# Altium integrated library Analog Devices Data Converters Digital-to-Analog Converters.IntLib: 2231 symbols (part 116 of 181)
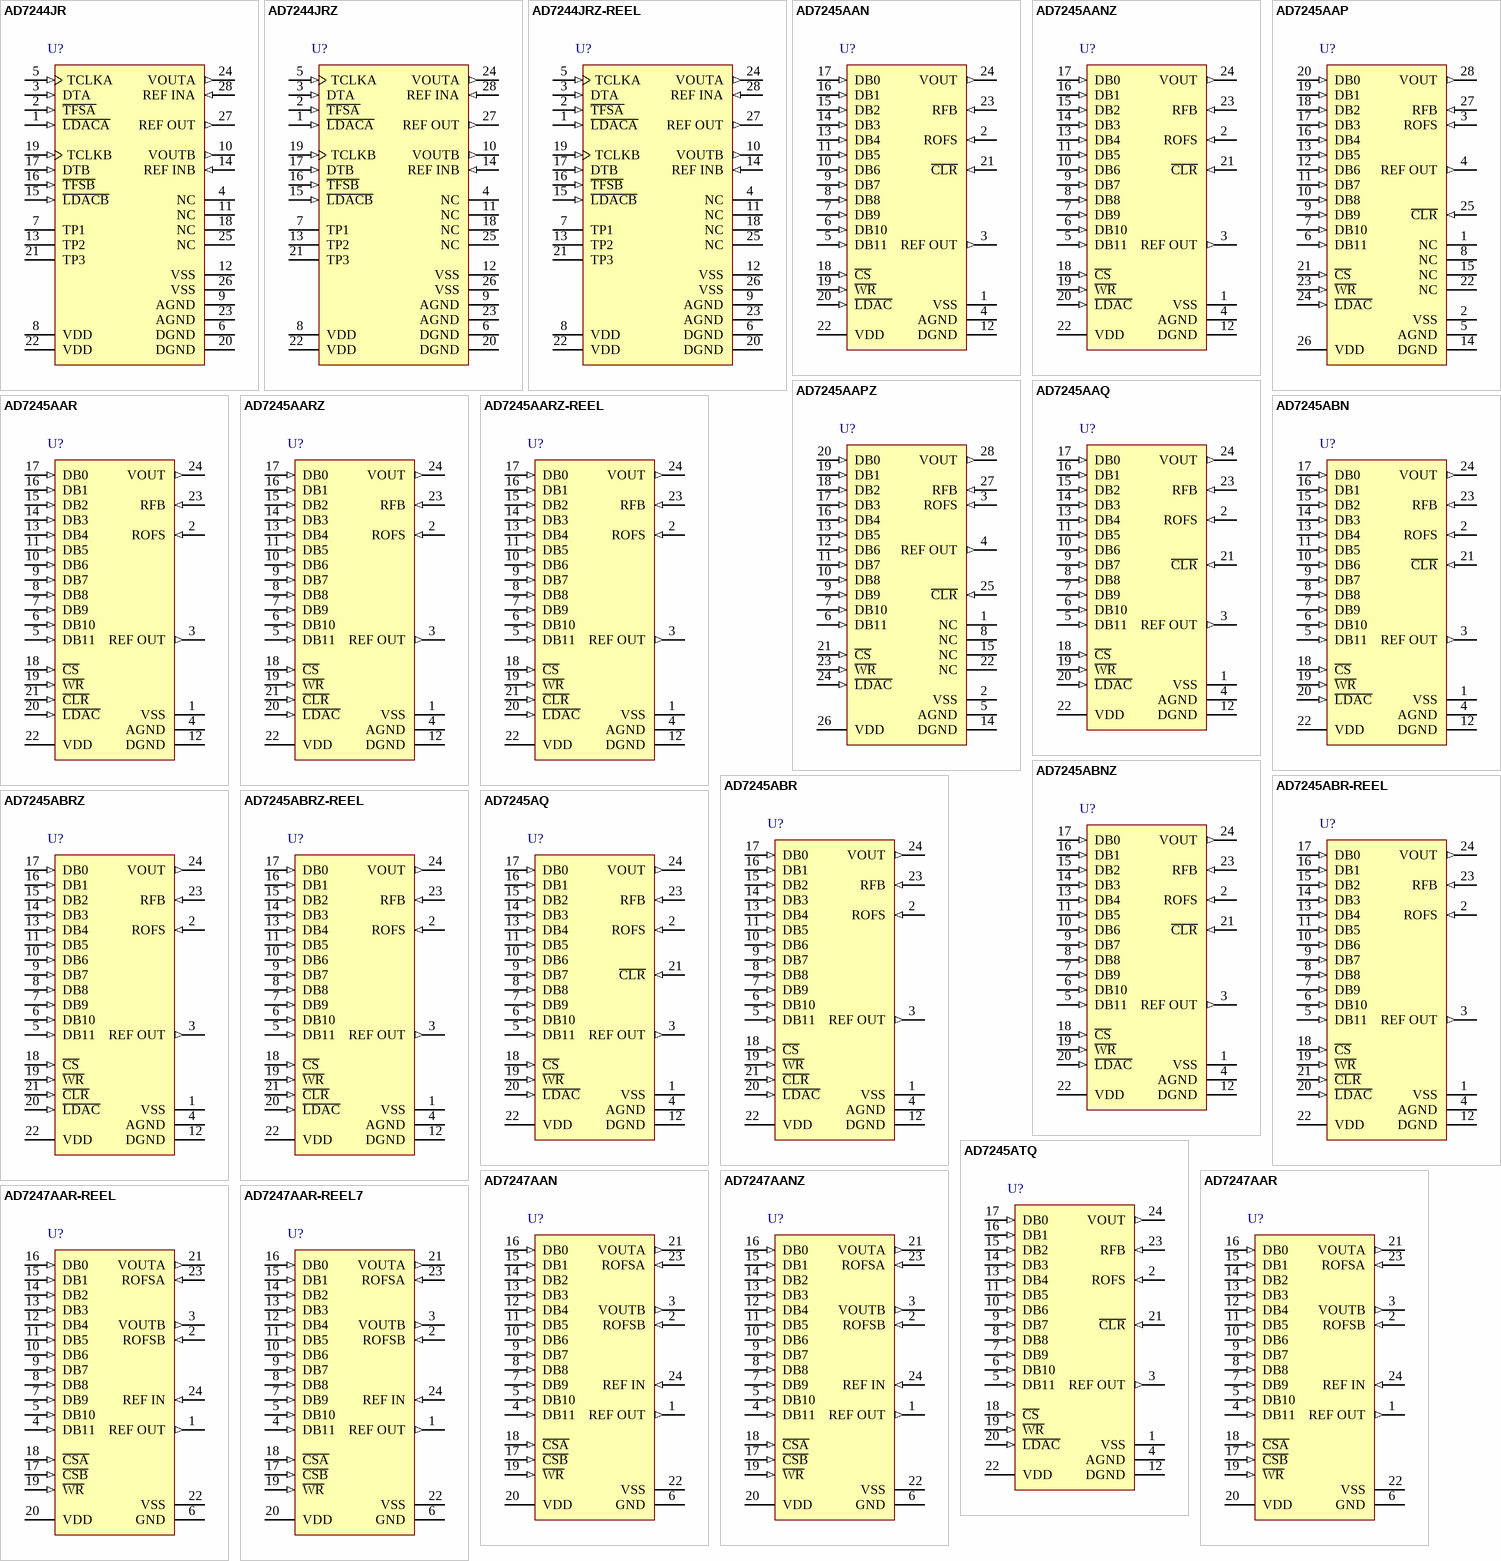
[diagram p229: symbols AD7244JR to AD7247AAR-REEL7]

## AD7245ATQ
designator U?
Single 12-Bit LC2MOS DACPORT, -55 to +125 degC, Q-24-1, Tube; Generic Part Number: AD7245A; Manufacturer: Analog Devices; PartNumber: AD7245ATQ; # DAC Outputs: 1; Max V+: 16.5V; Op Pwr Diss: 210mW; Resolution (Bits): 12; Settling Time: 7µs; Single Supply: Yes; DatasheetVersion: Rev.B; PackageVersion: 100808-A; PackageReference: Q-24-1; PackageDescription: 24-Lead Ceramic Dual In-Line Package [CERDIP]; Supplier 1: Digi-Key; Supplier Part Number 1: AD7245ATQ-ND; Supplier 2: Mouser; Supplier Part Number 2: 584-AD7245ATQ; Packing: Tube; RoHS: N; Mounting Technology: Through Hole; ComponentLink1Description: Manufacturer URL; ComponentLink1URL: http://www.analog.com/en/index.html; ComponentLink2Description: Datasheet; ComponentLink2URL: http://www.analog.com/static/imported-files/data_sheets/AD7245A_7248A.pdf; ComponentLink3Description: Package Specification; ComponentLink3URL: http://www.analog.com/static/imported-files/packages/PKG_PDF/CERDIP(Q)/Q_24_1.pdf; ComponentLink4Description: Product URL; ComponentLink4URL: http://www.analog.com/en/digital-to-analog-converters/da-converters/ad7245a/products/product.html
footprint Q-24-1 (DIP, 24-Leads, Row Spacing 7.62mm, Pitch 2.54mm, Body 31.9x6.7mm)
pins: 1 VSS (power) "Negative Supply Voltage (0 V for single supply operation).", 2 ROFS (in) "Bipolar Offset Resistor. This provides access to the on-chip application resistors and allows different output voltage ranges.", 3 REF OUT (out) "Reference Output. The on-chip reference is provided at this pin and is used when configuring the part for bipolar outputs.", 4 AGND (power) "Analog Ground.", 5 DB11 (in) "Data Bit 11. Most Significant Bit (MSB).", 6 DB10 (in) "Data Bit 10", 7 DB9 (in) "Data Bit 9", 8 DB8 (in) "Data Bit 8", 9 DB7 (in) "Data Bit 7", 10 DB6 (in) "Data Bit 6", 11 DB5 (in) "Data Bit 5", 12 DGND (power) "Digital Ground.", 13 DB4 (in) "Data Bit 4", 14 DB3 (in) "Data Bit 3", 15 DB2 (in) "Data Bit 2", 16 DB1 (in) "Data Bit 1", 17 DB0 (in) "Data Bit 0. Least Significant Bit (LSB).", 18 ~{CS} (in) "Chip Select Input (Active LOW). The device is selected when this input is active.", 19 ~{WR} (in) "Write Input (Active LOW). This is used in conjunction with C\S\ to write data into the input latch of the AD7245A.", 20 ~{LDAC} (in) "Load DAC Input (Active LOW). This is an asynchronous input which when active transfers data from the input latch to the DAC latch.", 21 ~{CLR} (in) "Clear Input (Active LOW). When this input is active the contents of the DAC latch are reset to all 0s.", 22 VDD (power) "Positive Supply Voltage.", 23 RFB (in) "Feedback Resistor. This allows access to the amplifier’s feedback loop.", 24 VOUT (out) "Output Voltage. Three different output voltage ranges can be chosen: 0 V to 5 V, 0 V to 10 V or -5 V to +5 V."

## AD7247AAN
designator U?
Dual 12-Bit LC2MOS DACPORT, -40 to +85 degC, N-24-1, Tube; Generic Part Number: AD7247A; Manufacturer: Analog Devices; PartNumber: AD7247AAN; # DAC Outputs: 2; Max V+: 15V; Resolution (Bits): 12; DatasheetVersion: Rev.A; PackageVersion: 071006-A; PackageReference: N-24-1; PackageDescription: 24-Lead Plastic Dual In-Line Package [PDIP] Narrow Body; Supplier 1: Digi-Key; Supplier Part Number 1: AD7247AAN-ND; Supplier 2: Mouser; Supplier Part Number 2: 584-AD7247AAN; Packing: Tube; RoHS: N; Mounting Technology: Through Hole; Code_JEDEC: MS-001; ComponentLink1Description: Manufacturer URL; ComponentLink1URL: http://www.analog.com/en/index.html; ComponentLink2Description: Datasheet; ComponentLink2URL: http://www.analog.com/static/imported-files/data_sheets/AD7237_7247.pdf; ComponentLink3Description: Package Specification; ComponentLink3URL: http://www.analog.com/static/imported-files/packages/50726455539629N_24_1.pdf; ComponentLink4Description: Product URL; ComponentLink4URL: http://www.analog.com/en/digital-to-analog-converters/da-converters/ad7247/products/product.html
footprint N-24-1 (DIP, 24-Leads, Row Spacing 7.62mm, Pitch 2.54mm, Body 31.9x6.6mm)
pins: 1 REF OUT (out) "Voltage Reference Output.The internal 5 V analog reference is provided at this pin.To operate the part with internal reference;REF OUT should be connected to REF IN.", 2 ROFSB (in) "Output Offset Resistor for DAC B.This input configures the output ranges for DAC B.It is connected to VOUTB for the + 5 V range,to GND for the + 10 V range and to REF IN for the +/- 5 V range.", 3 VOUTB (out) "Analog Output Voltage from DAC B.This is the buffer amplifier output voltage.Three different output voltage ranges can be chosen:0 to + 5 V,0 to + 10 V and +/- 5 V.The amplifier is capable of developing + 10 V across a 2 (See Datasheet)", 4 DB11 (in) "Data Bit 11 (MSB).", 5 DB10 (in) "Data Bit 10.", 6 GND (power) "Ground.Ground reference for all on-chip circuitry.", 7 DB9 (in) "Data Bit 9.", 8 DB8 (in) "Data Bit 8.", 9 DB7 (in) "Data Bit 7.", 10 DB6 (in) "Data Bit 6.", 11 DB5 (in) "Data Bit 5.", 12 DB4 (in) "Data Bit 4.", 13 DB3 (in) "Data Bit 3.", 14 DB2 (in) "Data Bit 2.", 15 DB1 (in) "Data Bit 1.", 16 DB0 (in) "Data Bit 0 (LSB).", 17 ~{CSB} (in) "Chip Select Input for DAC B.Active low logic input.DAC B is selected when this input is active.", 18 ~{CSA} (in) "Chip Select Input for DAC A.Active low logic input.DAC A is selected when this input is active.", 19 ~{WR} (in) "Write Input.W\R\ is an active low logic input which is used in conjunction with C\S\A\ and C\S\B\ to write data to the DAC latches.", 20 VDD (power) "Positive Supply,+ 15 V.", 21 VOUTA (out) "Analog Output Voltage from DAC A.This is the buffer amplifier output voltage.Three different output voltage ranges can be chosen:0 to + 5 V,0 to + 10 V and +/- 5 V.The amplifier is capable of developing + 10 V across a 2 (See Datasheet)", 22 VSS (power) "Negative Supply,- 15 V.", 23 ROFSA (in) "Output Offset Resistor for DAC A.This input configures the output ranges for DAC A.It is connected to VOUTA for the + 5 V range,to GND for the + 10 V range and to REF IN for the +/- 5 V range.", 24 REF IN (in) "Voltage Reference Input.The common reference voltage for both DACs is applied to this pin.It is internally buffered before being applied to both DACs.The nominal reference voltage for correct operation of the AD7247 is 5 V."

## AD7247AANZ
designator U?
Dual 12-Bit LC2MOS DACPORT, -40 to +85 degC, N-24-1, Pb-Free, Tube; Generic Part Number: AD7247A; Manufacturer: Analog Devices; PartNumber: AD7247AANZ; # DAC Outputs: 2; Max V+: 15V; Resolution (Bits): 12; Settling Time: 10us; DatasheetVersion: Rev.A; PackageVersion: 071006-A; PackageReference: N-24-1; PackageDescription: 24-Lead Plastic Dual In-Line Package [PDIP] Narrow Body; Supplier 1: Digi-Key; Supplier Part Number 1: AD7247AANZ-ND; Supplier 2: Farnell; Supplier Part Number 2: 1438395; Supplier 3: Newark; Supplier Part Number 3: 15P0778; Supplier 4: Newark; Supplier Part Number 4: 59K4622; Supplier 5: Mouser; Supplier Part Number 5: 584-AD7247AANZ; Packing: Tube; RoHS: Y; Mounting Technology: Through Hole; Code_JEDEC: MS-001; ComponentLink1Description: Manufacturer URL; ComponentLink1URL: http://www.analog.com/en/index.html; ComponentLink2Description: Datasheet; ComponentLink2URL: http://www.analog.com/static/imported-files/data_sheets/AD7237_7247.pdf; ComponentLink3Description: Package Specification; ComponentLink3URL: http://www.analog.com/static/imported-files/packages/50726455539629N_24_1.pdf; ComponentLink4Description: Product URL; ComponentLink4URL: http://www.analog.com/en/digital-to-analog-converters/da-converters/ad7247/products/product.html
footprint N-24-1 (DIP, 24-Leads, Row Spacing 7.62mm, Pitch 2.54mm, Body 31.9x6.6mm)
pins: 1 REF OUT (out) "Voltage Reference Output.The internal 5 V analog reference is provided at this pin.To operate the part with internal reference;REF OUT should be connected to REF IN.", 2 ROFSB (in) "Output Offset Resistor for DAC B.This input configures the output ranges for DAC B.It is connected to VOUTB for the + 5 V range,to GND for the + 10 V range and to REF IN for the +/- 5 V range.", 3 VOUTB (out) "Analog Output Voltage from DAC B.This is the buffer amplifier output voltage.Three different output voltage ranges can be chosen:0 to + 5 V,0 to + 10 V and +/- 5 V.The amplifier is capable of developing + 10 V across a 2 (See Datasheet)", 4 DB11 (in) "Data Bit 11 (MSB).", 5 DB10 (in) "Data Bit 10.", 6 GND (power) "Ground.Ground reference for all on-chip circuitry.", 7 DB9 (in) "Data Bit 9.", 8 DB8 (in) "Data Bit 8.", 9 DB7 (in) "Data Bit 7.", 10 DB6 (in) "Data Bit 6.", 11 DB5 (in) "Data Bit 5.", 12 DB4 (in) "Data Bit 4.", 13 DB3 (in) "Data Bit 3.", 14 DB2 (in) "Data Bit 2.", 15 DB1 (in) "Data Bit 1.", 16 DB0 (in) "Data Bit 0 (LSB).", 17 ~{CSB} (in) "Chip Select Input for DAC B.Active low logic input.DAC B is selected when this input is active.", 18 ~{CSA} (in) "Chip Select Input for DAC A.Active low logic input.DAC A is selected when this input is active.", 19 ~{WR} (in) "Write Input.W\R\ is an active low logic input which is used in conjunction with C\S\A\ and C\S\B\ to write data to the DAC latches.", 20 VDD (power) "Positive Supply,+ 15 V.", 21 VOUTA (out) "Analog Output Voltage from DAC A.This is the buffer amplifier output voltage.Three different output voltage ranges can be chosen:0 to + 5 V,0 to + 10 V and +/- 5 V.The amplifier is capable of developing + 10 V across a 2 (See Datasheet)", 22 VSS (power) "Negative Supply,- 15 V.", 23 ROFSA (in) "Output Offset Resistor for DAC A.This input configures the output ranges for DAC A.It is connected to VOUTA for the + 5 V range,to GND for the + 10 V range and to REF IN for the +/- 5 V range.", 24 REF IN (in) "Voltage Reference Input.The common reference voltage for both DACs is applied to this pin.It is internally buffered before being applied to both DACs.The nominal reference voltage for correct operation of the AD7247 is 5 V."

## AD7247AAR
designator U?
Dual 12-Bit LC2MOS DACPORT, -40 to +85 degC, RW-24, Tube; Generic Part Number: AD7247A; Manufacturer: Analog Devices; PartNumber: AD7247AAR; # DAC Outputs: 2; Max V+: 15V; Resolution (Bits): 12; Settling Time: 10us; DatasheetVersion: Rev.A; PackageVersion: 060706-A; PackageReference: RW-24; PackageDescription: 24-Lead Standard Small Outline Package [SOIC_W]; Supplier 1: Digi-Key; Supplier Part Number 1: AD7247AAR-ND; Supplier 2: Mouser; Supplier Part Number 2: 584-AD7247AAR; Packing: Tube; RoHS: N; Mounting Technology: Surface Mount; Code_JEDEC: MS-013-AD; ComponentLink1Description: Manufacturer URL; ComponentLink1URL: http://www.analog.com/en/index.html; ComponentLink2Description: Datasheet; ComponentLink2URL: http://www.analog.com/static/imported-files/data_sheets/AD7237_7247.pdf; ComponentLink3Description: Package Specification; ComponentLink3URL: http://www.analog.com/static/imported-files/packages/33665150946139RW_24.pdf; ComponentLink4Description: Product URL; ComponentLink4URL: http://www.analog.com/en/digital-to-analog-converters/da-converters/ad7247/products/product.html
footprint RW-24_N (SOIC, 24-Leads, Body 15.4x7.5mm, Pitch 1.27mm, IPC Medium Density)
footprint RW-24_L (SOIC, 24-Leads, Body 15.4x7.5mm, Pitch 1.27mm, IPC High Density)
footprint RW-24_M (SOIC, 24-Leads, Body 15.4x7.5mm, Pitch 1.27mm, IPC Low Density)
pins: 1 REF OUT (out) "Voltage Reference Output. The internal 5 V analog reference is provided at this pin. To operate the part with internal reference, REF OUT should be connected to REF IN.", 2 ROFSB (in) "Output Offset Resistor for DAC B. This input configures the output ranges for DAC B. It is connected to VOUTB for the +5 V range, to GND for the +10 V range and to REF IN for the +/-5 V range.", 3 VOUTB (out) "Analog Output Voltage from DAC B. This is the buffer amplifier output voltage. Three different Output voltage ranges can be chosen: 0 to +5 V, 0 to +10 V and +/-5 V. The amplifier is capable of developing +10 V across a 2 (See Datasheet)", 4 DB11 (in) "Data Bit 11 (MSB).", 5 DB10 (in) "Data Bit 10.", 6 GND (power) "Ground. Ground reference for all on-chip circuitry.", 7 DB9 (in) "Data Bit 9.", 8 DB8 (in) "Data Bit 8.", 9 DB7 (in) "Data Bit 7.", 10 DB6 (in) "Data Bit 6.", 11 DB5 (in) "Data Bit 5.", 12 DB4 (in) "Data Bit 4.", 13 DB3 (in) "Data Bit 3.", 14 DB2 (in) "Data Bit 2.", 15 DB1 (in) "Data Bit 1.", 16 DB0 (in) "Data Bit 0 (LSB).", 17 ~{CSB} (in) "Chip Select Input for DAC B. Active low logic input. DAC B is selected when this input is active.", 18 ~{CSA} (in) "Chip Select Input for DAC A. Active low logic input. DAC A is selected when this input is active.", 19 ~{WR} (in) "Write Input. W\R\ is an active low logic input which is used in conjunction with C\S\A\ and C\S\B\ to write data to the DAC latches.", 20 VDD (power) "Positive Suppiy, +15V.", 21 VOUTA (out) "Analog Output Voltage from DAC A. This is the buffer amplifier output voltage. Three different Output voltage ranges can be chosen: 0 to +5 V , 0 to +10 V and +/-5 V. The amplifier is capable of developing +10 V across a 2 (See Datasheet)", 22 VSS (power) "Negative Supply,-15V.", 23 ROFSA (in) "Output Offset Resistor for DAC A. This input configures the output ranges for DAC A. It is connected to VOUTB for the +5 V range, to GND for the +10 V range and to REF IN for the +/-5 V range.", 24 REF IN (in) "Voltage Reference Input. The common reference voltage for both DACs is applied to this pin. It is internally buffered before being appiled to both DACs. The nominal reference voltage for correct operation of the AD7247 is 5 (See Datasheet)"

## AD7247AAR-REEL
designator U?
Dual 12-Bit LC2MOS DACPORT, -40 to +85 degC, RW-24, Reel; Generic Part Number: AD7247A; Manufacturer: Analog Devices; PartNumber: AD7247AAR-REEL; # DAC Outputs: 2; Max V+: +15V; Resolution (Bits): 12; Settling Time: 30µs; Single Supply: Yes; DatasheetVersion: Rev.A; PackageVersion: 060706-A; PackageReference: RW-24; PackageDescription: 24-Lead Standard Small Outline Package [SOIC_W]; Supplier 1: Mouser; Supplier Part Number 1: N/A; Packing: Reel; RoHS: N; Mounting Technology: Surface Mount; Code_JEDEC: MS-013-AD; ComponentLink1Description: Manufacturer URL; ComponentLink1URL: http://www.analog.com/en/index.html; ComponentLink2Description: Datasheet; ComponentLink2URL: http://www.analog.com/static/imported-files/data_sheets/AD7237_7247.pdf; ComponentLink3Description: Package Specification; ComponentLink3URL: http://www.analog.com/static/imported-files/packages/33665150946139RW_24.pdf; ComponentLink4Description: Product URL; ComponentLink4URL: http://www.analog.com/en/digital-to-analog-converters/da-converters/ad7247/products/product.html
footprint RW-24_N (SOIC, 24-Leads, Body 15.4x7.5mm, Pitch 1.27mm, IPC Medium Density)
footprint RW-24_L (SOIC, 24-Leads, Body 15.4x7.5mm, Pitch 1.27mm, IPC High Density)
footprint RW-24_M (SOIC, 24-Leads, Body 15.4x7.5mm, Pitch 1.27mm, IPC Low Density)
pins: 1 REF OUT (out) "Voltage Reference Output. The internal 5 V analog reference is provided at this pin. To operate the part with internal reference, REF OUT should be connected to REF IN.", 2 ROFSB (in) "Output Offset Resistor for DAC B. This input configures the output ranges for DAC B. It is connected to VOUTB for the +5 V range, to GND for the +10 V range and to REF IN for the +/-5 V range.", 3 VOUTB (out) "Analog Output Voltage from DAC B. This is the buffer amplifier output voltage. Three different Output voltage ranges can be chosen: 0 to +5 V, 0 to +10 V and +/-5 V. The amplifier is capable of developing +10 V across a 2 (See Datasheet)", 4 DB11 (in) "Data Bit 11 (MSB).", 5 DB10 (in) "Data Bit 10.", 6 GND (power) "Ground. Ground reference for all on-chip circuitry.", 7 DB9 (in) "Data Bit 9.", 8 DB8 (in) "Data Bit 8.", 9 DB7 (in) "Data Bit 7.", 10 DB6 (in) "Data Bit 6.", 11 DB5 (in) "Data Bit 5.", 12 DB4 (in) "Data Bit 4.", 13 DB3 (in) "Data Bit 3.", 14 DB2 (in) "Data Bit 2.", 15 DB1 (in) "Data Bit 1.", 16 DB0 (in) "Data Bit 0 (LSB).", 17 ~{CSB} (in) "Chip Select Input for DAC B. Active low logic input. DAC B is selected when this input is active.", 18 ~{CSA} (in) "Chip Select Input for DAC A. Active low logic input. DAC A is selected when this input is active.", 19 ~{WR} (in) "Write Input. W\R\ is an active low logic input which is used in conjunction with C\S\A\ and C\S\B\ to write data to the DAC latches.", 20 VDD (power) "Positive Suppiy, +15V.", 21 VOUTA (out) "Analog Output Voltage from DAC A. This is the buffer amplifier output voltage. Three different Output voltage ranges can be chosen: 0 to +5 V , 0 to +10 V and +/-5 V. The amplifier is capable of developing +10 V across a 2 (See Datasheet)", 22 VSS (power) "Negative Supply,-15V.", 23 ROFSA (in) "Output Offset Resistor for DAC A. This input configures the output ranges for DAC A. It is connected to VOUTB for the +5 V range, to GND for the +10 V range and to REF IN for the +/-5 V range.", 24 REF IN (in) "Voltage Reference Input. The common reference voltage for both DACs is applied to this pin. It is internally buffered before being appiled to both DACs. The nominal reference voltage for correct operation of the AD7247 is 5 (See Datasheet)"

## AD7247AAR-REEL7
designator U?
Dual 12-Bit LC2MOS DACPORT, -40 to +85 degC, RW-24, Reel; Generic Part Number: AD7247A; Manufacturer: Analog Devices; PartNumber: AD7247AAR-REEL7; # DAC Outputs: 2; Max V+: 15V; Resolution (Bits): 12; Settling Time: 10us; DatasheetVersion: Rev.A; PackageVersion: 060706-A; PackageReference: RW-24; PackageDescription: 24-Lead Standard Small Outline Package [SOIC_W]; Supplier 1: Digi-Key; Supplier Part Number 1: AD7247AAR-REEL7-ND; Supplier 2: Newark; Supplier Part Number 2: 09B5607; Supplier 3: Mouser; Supplier Part Number 3: 584-AD7247AAR-R7; Packing: Reel; RoHS: N; Mounting Technology: Surface Mount; Code_JEDEC: MS-013-AD; ComponentLink1Description: Manufacturer URL; ComponentLink1URL: http://www.analog.com/en/index.html; ComponentLink2Description: Datasheet; ComponentLink2URL: http://www.analog.com/static/imported-files/data_sheets/AD7237_7247.pdf; ComponentLink3Description: Package Specification; ComponentLink3URL: http://www.analog.com/static/imported-files/packages/33665150946139RW_24.pdf; ComponentLink4Description: Product URL; ComponentLink4URL: http://www.analog.com/en/digital-to-analog-converters/da-converters/ad7247/products/product.html
footprint RW-24_N (SOIC, 24-Leads, Body 15.4x7.5mm, Pitch 1.27mm, IPC Medium Density)
footprint RW-24_L (SOIC, 24-Leads, Body 15.4x7.5mm, Pitch 1.27mm, IPC High Density)
footprint RW-24_M (SOIC, 24-Leads, Body 15.4x7.5mm, Pitch 1.27mm, IPC Low Density)
pins: 1 REF OUT (out) "Voltage Reference Output. The internal 5 V analog reference is provided at this pin. To operate the part with internal reference, REF OUT should be connected to REF IN.", 2 ROFSB (in) "Output Offset Resistor for DAC B. This input configures the output ranges for DAC B. It is connected to VOUTB for the +5 V range, to GND for the +10 V range and to REF IN for the +/-5 V range.", 3 VOUTB (out) "Analog Output Voltage from DAC B. This is the buffer amplifier output voltage. Three different Output voltage ranges can be chosen: 0 to +5 V, 0 to +10 V and +/-5 V. The amplifier is capable of developing +10 V across a 2 (See Datasheet)", 4 DB11 (in) "Data Bit 11 (MSB).", 5 DB10 (in) "Data Bit 10.", 6 GND (power) "Ground. Ground reference for all on-chip circuitry.", 7 DB9 (in) "Data Bit 9.", 8 DB8 (in) "Data Bit 8.", 9 DB7 (in) "Data Bit 7.", 10 DB6 (in) "Data Bit 6.", 11 DB5 (in) "Data Bit 5.", 12 DB4 (in) "Data Bit 4.", 13 DB3 (in) "Data Bit 3.", 14 DB2 (in) "Data Bit 2.", 15 DB1 (in) "Data Bit 1.", 16 DB0 (in) "Data Bit 0 (LSB).", 17 ~{CSB} (in) "Chip Select Input for DAC B. Active low logic input. DAC B is selected when this input is active.", 18 ~{CSA} (in) "Chip Select Input for DAC A. Active low logic input. DAC A is selected when this input is active.", 19 ~{WR} (in) "Write Input. W\R\ is an active low logic input which is used in conjunction with C\S\A\ and C\S\B\ to write data to the DAC latches.", 20 VDD (power) "Positive Suppiy, +15V.", 21 VOUTA (out) "Analog Output Voltage from DAC A. This is the buffer amplifier output voltage. Three different Output voltage ranges can be chosen: 0 to +5 V , 0 to +10 V and +/-5 V. The amplifier is capable of developing +10 V across a 2 (See Datasheet)", 22 VSS (power) "Negative Supply,-15V.", 23 ROFSA (in) "Output Offset Resistor for DAC A. This input configures the output ranges for DAC A. It is connected to VOUTB for the +5 V range, to GND for the +10 V range and to REF IN for the +/-5 V range.", 24 REF IN (in) "Voltage Reference Input. The common reference voltage for both DACs is applied to this pin. It is internally buffered before being appiled to both DACs. The nominal reference voltage for correct operation of the AD7247 is 5 (See Datasheet)"

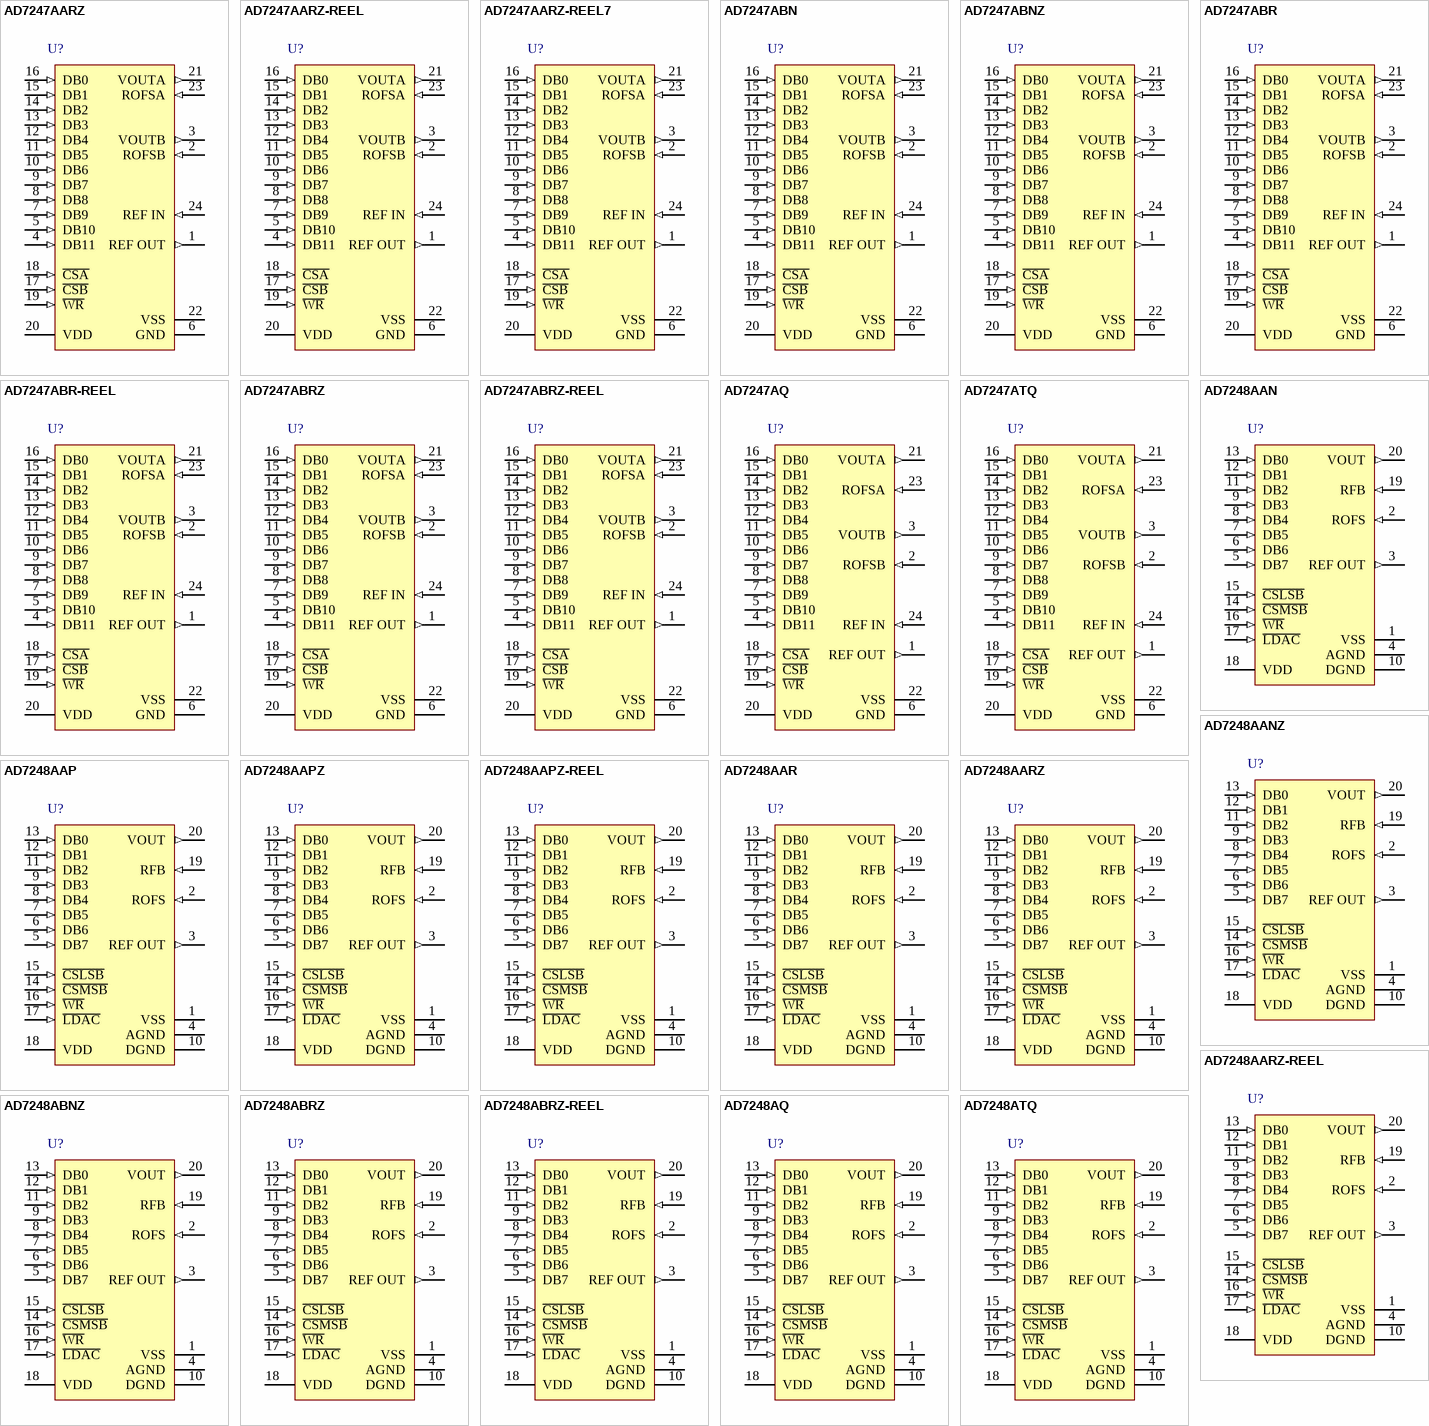
[diagram p62: symbols AD7247AARZ to AD7248ATQ]

## AD7247AARZ
designator U?
Dual 12-Bit LC2MOS DACPORT, -40 to +85 degC, RW-24, Pb-Free, Tube; Generic Part Number: AD7247A; Manufacturer: Analog Devices; PartNumber: AD7247AARZ; # DAC Outputs: 2; Max V+: 15V; Resolution (Bits): 12; Settling Time: 10us; DatasheetVersion: Rev.A; PackageVersion: 060706-A; PackageReference: RW-24; PackageDescription: 24-Lead Standard Small Outline Package [SOIC_W]; Supplier 1: Digi-Key; Supplier Part Number 1: AD7247AARZ-ND; Supplier 2: Newark; Supplier Part Number 2: 59K4623; Supplier 3: Mouser; Supplier Part Number 3: 584-AD7247AARZ; Packing: Tube; RoHS: Y; Mounting Technology: Surface Mount; Code_JEDEC: MS-013-AD; ComponentLink1Description: Manufacturer URL; ComponentLink1URL: http://www.analog.com/en/index.html; ComponentLink2Description: Datasheet; ComponentLink2URL: http://www.analog.com/static/imported-files/data_sheets/AD7237_7247.pdf; ComponentLink3Description: Package Specification; ComponentLink3URL: http://www.analog.com/static/imported-files/packages/33665150946139RW_24.pdf; ComponentLink4Description: Product URL; ComponentLink4URL: http://www.analog.com/en/digital-to-analog-converters/da-converters/ad7247/products/product.html
footprint RW-24_N (SOIC, 24-Leads, Body 15.4x7.5mm, Pitch 1.27mm, IPC Medium Density)
footprint RW-24_L (SOIC, 24-Leads, Body 15.4x7.5mm, Pitch 1.27mm, IPC High Density)
footprint RW-24_M (SOIC, 24-Leads, Body 15.4x7.5mm, Pitch 1.27mm, IPC Low Density)
pins: 1 REF OUT (out) "Voltage Reference Output. The internal 5 V analog reference is provided at this pin. To operate the part with internal reference, REF OUT should be connected to REF IN.", 2 ROFSB (in) "Output Offset Resistor for DAC B. This input configures the output ranges for DAC B. It is connected to VOUTB for the +5 V range, to GND for the +10 V range and to REF IN for the +/-5 V range.", 3 VOUTB (out) "Analog Output Voltage from DAC B. This is the buffer amplifier output voltage. Three different Output voltage ranges can be chosen: 0 to +5 V, 0 to +10 V and +/-5 V. The amplifier is capable of developing +10 V across a 2 (See Datasheet)", 4 DB11 (in) "Data Bit 11 (MSB).", 5 DB10 (in) "Data Bit 10.", 6 GND (power) "Ground. Ground reference for all on-chip circuitry.", 7 DB9 (in) "Data Bit 9.", 8 DB8 (in) "Data Bit 8.", 9 DB7 (in) "Data Bit 7.", 10 DB6 (in) "Data Bit 6.", 11 DB5 (in) "Data Bit 5.", 12 DB4 (in) "Data Bit 4.", 13 DB3 (in) "Data Bit 3.", 14 DB2 (in) "Data Bit 2.", 15 DB1 (in) "Data Bit 1.", 16 DB0 (in) "Data Bit 0 (LSB).", 17 ~{CSB} (in) "Chip Select Input for DAC B. Active low logic input. DAC B is selected when this input is active.", 18 ~{CSA} (in) "Chip Select Input for DAC A. Active low logic input. DAC A is selected when this input is active.", 19 ~{WR} (in) "Write Input. W\R\ is an active low logic input which is used in conjunction with C\S\A\ and C\S\B\ to write data to the DAC latches.", 20 VDD (power) "Positive Suppiy, +15V.", 21 VOUTA (out) "Analog Output Voltage from DAC A. This is the buffer amplifier output voltage. Three different Output voltage ranges can be chosen: 0 to +5 V , 0 to +10 V and +/-5 V. The amplifier is capable of developing +10 V across a 2 (See Datasheet)", 22 VSS (power) "Negative Supply,-15V.", 23 ROFSA (in) "Output Offset Resistor for DAC A. This input configures the output ranges for DAC A. It is connected to VOUTB for the +5 V range, to GND for the +10 V range and to REF IN for the +/-5 V range.", 24 REF IN (in) "Voltage Reference Input. The common reference voltage for both DACs is applied to this pin. It is internally buffered before being appiled to both DACs. The nominal reference voltage for correct operation of the AD7247 is 5 (See Datasheet)"

## AD7247AARZ-REEL
designator U?
Dual 12-Bit LC2MOS DACPORT, -40 to +85 degC, RW-24, Pb-Free, Reel; Generic Part Number: AD7247A; Manufacturer: Analog Devices; PartNumber: AD7247AARZ-REEL; # DAC Outputs: 2; Max V+: 16.5V; Op Pwr Diss: 300mW; Resolution (Bits): 12; Settling Time: 8µs; DatasheetVersion: Rev.A; PackageVersion: 060706-A; PackageReference: RW-24; PackageDescription: 24-Lead Standard Small Outline Package [SOIC_W]; Supplier 1: Digi-Key; Supplier Part Number 1: AD7247AARZ-REEL-ND; Supplier 2: Mouser; Supplier Part Number 2: 584-AD7247AARZ-R; Packing: Reel; RoHS: Y; Mounting Technology: Surface Mount; Code_JEDEC: MS-013-AD; ComponentLink1Description: Manufacturer URL; ComponentLink1URL: http://www.analog.com/en/index.html; ComponentLink2Description: Datasheet; ComponentLink2URL: http://www.analog.com/static/imported-files/data_sheets/AD7237_7247.pdf; ComponentLink3Description: Package Specification; ComponentLink3URL: http://www.analog.com/static/imported-files/packages/33665150946139RW_24.pdf; ComponentLink4Description: Product URL; ComponentLink4URL: http://www.analog.com/en/digital-to-analog-converters/da-converters/ad7247/products/product.html
footprint RW-24_N (SOIC, 24-Leads, Body 15.4x7.5mm, Pitch 1.27mm, IPC Medium Density)
footprint RW-24_L (SOIC, 24-Leads, Body 15.4x7.5mm, Pitch 1.27mm, IPC High Density)
footprint RW-24_M (SOIC, 24-Leads, Body 15.4x7.5mm, Pitch 1.27mm, IPC Low Density)
pins: 1 REF OUT (out) "Voltage Reference Output. The internal 5 V analog reference is provided at this pin. To operate the part with internal reference, REF OUT should be connected to REF IN.", 2 ROFSB (in) "Output Offset Resistor for DAC B. This input configures the output ranges for DAC B. It is connected to VOUTB for the +5 V range, to GND for the +10 V range and to REF IN for the +/-5 V range.", 3 VOUTB (out) "Analog Output Voltage from DAC B. This is the buffer amplifier output voltage. Three different Output voltage ranges can be chosen: 0 to +5 V, 0 to +10 V and +/-5 V. The amplifier is capable of developing +10 V across a 2 (See Datasheet)", 4 DB11 (in) "Data Bit 11 (MSB).", 5 DB10 (in) "Data Bit 10.", 6 GND (power) "Ground. Ground reference for all on-chip circuitry.", 7 DB9 (in) "Data Bit 9.", 8 DB8 (in) "Data Bit 8.", 9 DB7 (in) "Data Bit 7.", 10 DB6 (in) "Data Bit 6.", 11 DB5 (in) "Data Bit 5.", 12 DB4 (in) "Data Bit 4.", 13 DB3 (in) "Data Bit 3.", 14 DB2 (in) "Data Bit 2.", 15 DB1 (in) "Data Bit 1.", 16 DB0 (in) "Data Bit 0 (LSB).", 17 ~{CSB} (in) "Chip Select Input for DAC B. Active low logic input. DAC B is selected when this input is active.", 18 ~{CSA} (in) "Chip Select Input for DAC A. Active low logic input. DAC A is selected when this input is active.", 19 ~{WR} (in) "Write Input. W\R\ is an active low logic input which is used in conjunction with C\S\A\ and C\S\B\ to write data to the DAC latches.", 20 VDD (power) "Positive Suppiy, +15V.", 21 VOUTA (out) "Analog Output Voltage from DAC A. This is the buffer amplifier output voltage. Three different Output voltage ranges can be chosen: 0 to +5 V , 0 to +10 V and +/-5 V. The amplifier is capable of developing +10 V across a 2 (See Datasheet)", 22 VSS (power) "Negative Supply,-15V.", 23 ROFSA (in) "Output Offset Resistor for DAC A. This input configures the output ranges for DAC A. It is connected to VOUTB for the +5 V range, to GND for the +10 V range and to REF IN for the +/-5 V range.", 24 REF IN (in) "Voltage Reference Input. The common reference voltage for both DACs is applied to this pin. It is internally buffered before being appiled to both DACs. The nominal reference voltage for correct operation of the AD7247 is 5 (See Datasheet)"

## AD7247AARZ-REEL7
designator U?
Dual 12-Bit LC2MOS DACPORT, -40 to +85 degC, RW-24, Pb-Free, Reel; Generic Part Number: AD7247A; Manufacturer: Analog Devices; PartNumber: AD7247AARZ-REEL7; # DAC Outputs: 2; Max V+: 15V; Resolution (Bits): 12; Settling Time: 30 ns; Single Supply: YES; DatasheetVersion: Rev.A; PackageVersion: 060706-A; PackageReference: RW-24; PackageDescription: 24-Lead Standard Small Outline Package [SOIC_W]; Supplier 1: Digi-Key; Supplier Part Number 1: AD7247AARZ-REEL7TR-ND; Supplier 2: Digi-Key; Supplier Part Number 2: AD7247AARZ-REEL7CT-ND; Supplier 3: Digi-Key; Supplier Part Number 3: AD7247AARZ-REEL7DKR-ND; Supplier 4: Newark; Supplier Part Number 4: 87H9979; Supplier 5: Mouser; Supplier Part Number 5: 584-AD7247AARZ-R7; Packing: Reel; RoHS: Y; Mounting Technology: Surface Mount; Code_JEDEC: MS-013-AD; ComponentLink1Description: Manufacturer URL; ComponentLink1URL: http://www.analog.com/en/index.html; ComponentLink2Description: Datasheet; ComponentLink2URL: http://www.analog.com/static/imported-files/data_sheets/AD7237_7247.pdf; ComponentLink3Description: Package Specification; ComponentLink3URL: http://www.analog.com/static/imported-files/packages/33665150946139RW_24.pdf; ComponentLink4Description: Product URL; ComponentLink4URL: http://www.analog.com/en/digital-to-analog-converters/da-converters/ad7247/products/product.html
footprint RW-24_N (SOIC, 24-Leads, Body 15.4x7.5mm, Pitch 1.27mm, IPC Medium Density)
footprint RW-24_L (SOIC, 24-Leads, Body 15.4x7.5mm, Pitch 1.27mm, IPC High Density)
footprint RW-24_M (SOIC, 24-Leads, Body 15.4x7.5mm, Pitch 1.27mm, IPC Low Density)
pins: 1 REF OUT (out) "Voltage Reference Output. The internal 5 V analog reference is provided at this pin. To operate the part with internal reference, REF OUT should be connected to REF IN.", 2 ROFSB (in) "Output Offset Resistor for DAC B. This input configures the output ranges for DAC B. It is connected to VOUTB for the +5 V range, to GND for the +10 V range and to REF IN for the +/-5 V range.", 3 VOUTB (out) "Analog Output Voltage from DAC B. This is the buffer amplifier output voltage. Three different Output voltage ranges can be chosen: 0 to +5 V, 0 to +10 V and +/-5 V. The amplifier is capable of developing +10 V across a 2 (See Datasheet)", 4 DB11 (in) "Data Bit 11 (MSB).", 5 DB10 (in) "Data Bit 10.", 6 GND (power) "Ground. Ground reference for all on-chip circuitry.", 7 DB9 (in) "Data Bit 9.", 8 DB8 (in) "Data Bit 8.", 9 DB7 (in) "Data Bit 7.", 10 DB6 (in) "Data Bit 6.", 11 DB5 (in) "Data Bit 5.", 12 DB4 (in) "Data Bit 4.", 13 DB3 (in) "Data Bit 3.", 14 DB2 (in) "Data Bit 2.", 15 DB1 (in) "Data Bit 1.", 16 DB0 (in) "Data Bit 0 (LSB).", 17 ~{CSB} (in) "Chip Select Input for DAC B. Active low logic input. DAC B is selected when this input is active.", 18 ~{CSA} (in) "Chip Select Input for DAC A. Active low logic input. DAC A is selected when this input is active.", 19 ~{WR} (in) "Write Input. W\R\ is an active low logic input which is used in conjunction with C\S\A\ and C\S\B\ to write data to the DAC latches.", 20 VDD (power) "Positive Suppiy, +15V.", 21 VOUTA (out) "Analog Output Voltage from DAC A. This is the buffer amplifier output voltage. Three different Output voltage ranges can be chosen: 0 to +5 V , 0 to +10 V and +/-5 V. The amplifier is capable of developing +10 V across a 2 (See Datasheet)", 22 VSS (power) "Negative Supply,-15V.", 23 ROFSA (in) "Output Offset Resistor for DAC A. This input configures the output ranges for DAC A. It is connected to VOUTB for the +5 V range, to GND for the +10 V range and to REF IN for the +/-5 V range.", 24 REF IN (in) "Voltage Reference Input. The common reference voltage for both DACs is applied to this pin. It is internally buffered before being appiled to both DACs. The nominal reference voltage for correct operation of the AD7247 is 5 (See Datasheet)"

## AD7247ABN
designator U?
Dual 12-Bit LC2MOS DACPORT, -40 to +85 degC, N-24-1, Tube; Generic Part Number: AD7247A; Manufacturer: Analog Devices; PartNumber: AD7247ABN; # DAC Outputs: 2; Max V+: 15V; Resolution (Bits): 12; Settling Time: 30 ns; Single Supply: YES; DatasheetVersion: Rev.A; PackageVersion: 071006-A; PackageReference: N-24-1; PackageDescription: 24-Lead Plastic Dual In-Line Package [PDIP] Narrow Body; Supplier 1: Digi-Key; Supplier Part Number 1: AD7247ABN-ND; Supplier 2: Mouser; Supplier Part Number 2: 584-AD7247ABN; Packing: Tube; RoHS: N; Mounting Technology: Through Hole; Code_JEDEC: MS-001; ComponentLink1Description: Manufacturer URL; ComponentLink1URL: http://www.analog.com/en/index.html; ComponentLink2Description: Datasheet; ComponentLink2URL: http://www.analog.com/static/imported-files/data_sheets/AD7237_7247.pdf; ComponentLink3Description: Package Specification; ComponentLink3URL: http://www.analog.com/static/imported-files/packages/50726455539629N_24_1.pdf; ComponentLink4Description: Product URL; ComponentLink4URL: http://www.analog.com/en/digital-to-analog-converters/da-converters/ad7247/products/product.html
footprint N-24-1 (DIP, 24-Leads, Row Spacing 7.62mm, Pitch 2.54mm, Body 31.9x6.6mm)
pins: 1 REF OUT (out) "Voltage Reference Output.The internal 5 V analog reference is provided at this pin.To operate the part with internal reference;REF OUT should be connected to REF IN.", 2 ROFSB (in) "Output Offset Resistor for DAC B.This input configures the output ranges for DAC B.It is connected to VOUTB for the + 5 V range,to GND for the + 10 V range and to REF IN for the +/- 5 V range.", 3 VOUTB (out) "Analog Output Voltage from DAC B.This is the buffer amplifier output voltage.Three different output voltage ranges can be chosen:0 to + 5 V,0 to + 10 V and +/- 5 V.The amplifier is capable of developing + 10 V across a 2 (See Datasheet)", 4 DB11 (in) "Data Bit 11 (MSB).", 5 DB10 (in) "Data Bit 10.", 6 GND (power) "Ground.Ground reference for all on-chip circuitry.", 7 DB9 (in) "Data Bit 9.", 8 DB8 (in) "Data Bit 8.", 9 DB7 (in) "Data Bit 7.", 10 DB6 (in) "Data Bit 6.", 11 DB5 (in) "Data Bit 5.", 12 DB4 (in) "Data Bit 4.", 13 DB3 (in) "Data Bit 3.", 14 DB2 (in) "Data Bit 2.", 15 DB1 (in) "Data Bit 1.", 16 DB0 (in) "Data Bit 0 (LSB).", 17 ~{CSB} (in) "Chip Select Input for DAC B.Active low logic input.DAC B is selected when this input is active.", 18 ~{CSA} (in) "Chip Select Input for DAC A.Active low logic input.DAC A is selected when this input is active.", 19 ~{WR} (in) "Write Input.W\R\ is an active low logic input which is used in conjunction with C\S\A\ and C\S\B\ to write data to the DAC latches.", 20 VDD (power) "Positive Supply,+ 15 V.", 21 VOUTA (out) "Analog Output Voltage from DAC A.This is the buffer amplifier output voltage.Three different output voltage ranges can be chosen:0 to + 5 V,0 to + 10 V and +/- 5 V.The amplifier is capable of developing + 10 V across a 2 (See Datasheet)", 22 VSS (power) "Negative Supply,- 15 V.", 23 ROFSA (in) "Output Offset Resistor for DAC A.This input configures the output ranges for DAC A.It is connected to VOUTA for the + 5 V range,to GND for the + 10 V range and to REF IN for the +/- 5 V range.", 24 REF IN (in) "Voltage Reference Input.The common reference voltage for both DACs is applied to this pin.It is internally buffered before being applied to both DACs.The nominal reference voltage for correct operation of the AD7247 is 5 V."

## AD7247ABNZ
designator U?
Dual 12-Bit LC2MOS DACPORT, -40 to +85 degC, N-24-1, Pb-Free, Tube; Generic Part Number: AD7247A; Manufacturer: Analog Devices; PartNumber: AD7247ABNZ; # DAC Outputs: 2; Max V+: 15V; Resolution (Bits): 12; Settling Time: 30 ns; Single Supply: YES; DatasheetVersion: Rev.A; PackageVersion: 071006-A; PackageReference: N-24-1; PackageDescription: 24-Lead Plastic Dual In-Line Package [PDIP] Narrow Body; Supplier 1: Digi-Key; Supplier Part Number 1: AD7247ABNZ-ND; Supplier 2: Mouser; Supplier Part Number 2: 584-AD7247ABNZ; Packing: Tube; RoHS: Y; Mounting Technology: Through Hole; Code_JEDEC: MS-001; ComponentLink1Description: Manufacturer URL; ComponentLink1URL: http://www.analog.com/en/index.html; ComponentLink2Description: Datasheet; ComponentLink2URL: http://www.analog.com/static/imported-files/data_sheets/AD7237_7247.pdf; ComponentLink3Description: Package Specification; ComponentLink3URL: http://www.analog.com/static/imported-files/packages/50726455539629N_24_1.pdf; ComponentLink4Description: Product URL; ComponentLink4URL: http://www.analog.com/en/digital-to-analog-converters/da-converters/ad7247/products/product.html
footprint N-24-1 (DIP, 24-Leads, Row Spacing 7.62mm, Pitch 2.54mm, Body 31.9x6.6mm)
pins: 1 REF OUT (out) "Voltage Reference Output.The internal 5 V analog reference is provided at this pin.To operate the part with internal reference;REF OUT should be connected to REF IN.", 2 ROFSB (in) "Output Offset Resistor for DAC B.This input configures the output ranges for DAC B.It is connected to VOUTB for the + 5 V range,to GND for the + 10 V range and to REF IN for the +/- 5 V range.", 3 VOUTB (out) "Analog Output Voltage from DAC B.This is the buffer amplifier output voltage.Three different output voltage ranges can be chosen:0 to + 5 V,0 to + 10 V and +/- 5 V.The amplifier is capable of developing + 10 V across a 2 (See Datasheet)", 4 DB11 (in) "Data Bit 11 (MSB).", 5 DB10 (in) "Data Bit 10.", 6 GND (power) "Ground.Ground reference for all on-chip circuitry.", 7 DB9 (in) "Data Bit 9.", 8 DB8 (in) "Data Bit 8.", 9 DB7 (in) "Data Bit 7.", 10 DB6 (in) "Data Bit 6.", 11 DB5 (in) "Data Bit 5.", 12 DB4 (in) "Data Bit 4.", 13 DB3 (in) "Data Bit 3.", 14 DB2 (in) "Data Bit 2.", 15 DB1 (in) "Data Bit 1.", 16 DB0 (in) "Data Bit 0 (LSB).", 17 ~{CSB} (in) "Chip Select Input for DAC B.Active low logic input.DAC B is selected when this input is active.", 18 ~{CSA} (in) "Chip Select Input for DAC A.Active low logic input.DAC A is selected when this input is active.", 19 ~{WR} (in) "Write Input.W\R\ is an active low logic input which is used in conjunction with C\S\A\ and C\S\B\ to write data to the DAC latches.", 20 VDD (power) "Positive Supply,+ 15 V.", 21 VOUTA (out) "Analog Output Voltage from DAC A.This is the buffer amplifier output voltage.Three different output voltage ranges can be chosen:0 to + 5 V,0 to + 10 V and +/- 5 V.The amplifier is capable of developing + 10 V across a 2 (See Datasheet)", 22 VSS (power) "Negative Supply,- 15 V.", 23 ROFSA (in) "Output Offset Resistor for DAC A.This input configures the output ranges for DAC A.It is connected to VOUTA for the + 5 V range,to GND for the + 10 V range and to REF IN for the +/- 5 V range.", 24 REF IN (in) "Voltage Reference Input.The common reference voltage for both DACs is applied to this pin.It is internally buffered before being applied to both DACs.The nominal reference voltage for correct operation of the AD7247 is 5 V."

## AD7247ABR
designator U?
Dual 12-Bit LC2MOS DACPORT, -40 to +85 degC, RW-24, Tube; Generic Part Number: AD7247A; Manufacturer: Analog Devices; PartNumber: AD7247ABR; # DAC Outputs: 2; Max V+: 15V; Resolution (Bits): 12; Settling Time: 30 ns; Single Supply: YES; DatasheetVersion: Rev.A; PackageVersion: 060706-A; PackageReference: RW-24; PackageDescription: 24-Lead Standard Small Outline Package [SOIC_W]; Supplier 1: Digi-Key; Supplier Part Number 1: AD7247ABR-ND; Supplier 2: Mouser; Supplier Part Number 2: 584-AD7247ABR; Packing: Tube; RoHS: N; Mounting Technology: Surface Mount; Code_JEDEC: MS-013-AD; ComponentLink1Description: Manufacturer URL; ComponentLink1URL: http://www.analog.com/en/index.html; ComponentLink2Description: Datasheet; ComponentLink2URL: http://www.analog.com/static/imported-files/data_sheets/AD7237_7247.pdf; ComponentLink3Description: Package Specification; ComponentLink3URL: http://www.analog.com/static/imported-files/packages/33665150946139RW_24.pdf; ComponentLink4Description: Product URL; ComponentLink4URL: http://www.analog.com/en/digital-to-analog-converters/da-converters/ad7247/products/product.html
footprint RW-24_N (SOIC, 24-Leads, Body 15.4x7.5mm, Pitch 1.27mm, IPC Medium Density)
footprint RW-24_L (SOIC, 24-Leads, Body 15.4x7.5mm, Pitch 1.27mm, IPC High Density)
footprint RW-24_M (SOIC, 24-Leads, Body 15.4x7.5mm, Pitch 1.27mm, IPC Low Density)
pins: 1 REF OUT (out) "Voltage Reference Output. The internal 5 V analog reference is provided at this pin. To operate the part with internal reference, REF OUT should be connected to REF IN.", 2 ROFSB (in) "Output Offset Resistor for DAC B. This input configures the output ranges for DAC B. It is connected to VOUTB for the +5 V range, to GND for the +10 V range and to REF IN for the +/-5 V range.", 3 VOUTB (out) "Analog Output Voltage from DAC B. This is the buffer amplifier output voltage. Three different Output voltage ranges can be chosen: 0 to +5 V, 0 to +10 V and +/-5 V. The amplifier is capable of developing +10 V across a 2 (See Datasheet)", 4 DB11 (in) "Data Bit 11 (MSB).", 5 DB10 (in) "Data Bit 10.", 6 GND (power) "Ground. Ground reference for all on-chip circuitry.", 7 DB9 (in) "Data Bit 9.", 8 DB8 (in) "Data Bit 8.", 9 DB7 (in) "Data Bit 7.", 10 DB6 (in) "Data Bit 6.", 11 DB5 (in) "Data Bit 5.", 12 DB4 (in) "Data Bit 4.", 13 DB3 (in) "Data Bit 3.", 14 DB2 (in) "Data Bit 2.", 15 DB1 (in) "Data Bit 1.", 16 DB0 (in) "Data Bit 0 (LSB).", 17 ~{CSB} (in) "Chip Select Input for DAC B. Active low logic input. DAC B is selected when this input is active.", 18 ~{CSA} (in) "Chip Select Input for DAC A. Active low logic input. DAC A is selected when this input is active.", 19 ~{WR} (in) "Write Input. W\R\ is an active low logic input which is used in conjunction with C\S\A\ and C\S\B\ to write data to the DAC latches.", 20 VDD (power) "Positive Suppiy, +15V.", 21 VOUTA (out) "Analog Output Voltage from DAC A. This is the buffer amplifier output voltage. Three different Output voltage ranges can be chosen: 0 to +5 V , 0 to +10 V and +/-5 V. The amplifier is capable of developing +10 V across a 2 (See Datasheet)", 22 VSS (power) "Negative Supply,-15V.", 23 ROFSA (in) "Output Offset Resistor for DAC A. This input configures the output ranges for DAC A. It is connected to VOUTB for the +5 V range, to GND for the +10 V range and to REF IN for the +/-5 V range.", 24 REF IN (in) "Voltage Reference Input. The common reference voltage for both DACs is applied to this pin. It is internally buffered before being appiled to both DACs. The nominal reference voltage for correct operation of the AD7247 is 5 (See Datasheet)"

## AD7247ABR-REEL
designator U?
Dual 12-Bit LC2MOS DACPORT, -40 to +85 degC, RW-24, Reel; Generic Part Number: AD7247A; Manufacturer: Analog Devices; PartNumber: AD7247ABR-REEL; # DAC Outputs: 2; Max V+: 15V; Resolution (Bits): 12; Settling Time: 30 ns; Single Supply: YES; DatasheetVersion: Rev.A; PackageVersion: 060706-A; PackageReference: RW-24; PackageDescription: 24-Lead Standard Small Outline Package [SOIC_W]; Supplier 1: Digi-Key; Supplier Part Number 1: AD7247ABR-REEL-ND; Supplier 2: Newark; Supplier Part Number 2: 09B5609; Supplier 3: Mouser; Supplier Part Number 3: 584-AD7247ABR-R; Packing: Reel; RoHS: N; Mounting Technology: Surface Mount; Code_JEDEC: MS-013-AD; ComponentLink1Description: Manufacturer URL; ComponentLink1URL: http://www.analog.com/en/index.html; ComponentLink2Description: Datasheet; ComponentLink2URL: http://www.analog.com/static/imported-files/data_sheets/AD7237_7247.pdf; ComponentLink3Description: Package Specification; ComponentLink3URL: http://www.analog.com/static/imported-files/packages/33665150946139RW_24.pdf; ComponentLink4Description: Product URL; ComponentLink4URL: http://www.analog.com/en/digital-to-analog-converters/da-converters/ad7247/products/product.html
footprint RW-24_N (SOIC, 24-Leads, Body 15.4x7.5mm, Pitch 1.27mm, IPC Medium Density)
footprint RW-24_L (SOIC, 24-Leads, Body 15.4x7.5mm, Pitch 1.27mm, IPC High Density)
footprint RW-24_M (SOIC, 24-Leads, Body 15.4x7.5mm, Pitch 1.27mm, IPC Low Density)
pins: 1 REF OUT (out) "Voltage Reference Output. The internal 5 V analog reference is provided at this pin. To operate the part with internal reference, REF OUT should be connected to REF IN.", 2 ROFSB (in) "Output Offset Resistor for DAC B. This input configures the output ranges for DAC B. It is connected to VOUTB for the +5 V range, to GND for the +10 V range and to REF IN for the +/-5 V range.", 3 VOUTB (out) "Analog Output Voltage from DAC B. This is the buffer amplifier output voltage. Three different Output voltage ranges can be chosen: 0 to +5 V, 0 to +10 V and +/-5 V. The amplifier is capable of developing +10 V across a 2 (See Datasheet)", 4 DB11 (in) "Data Bit 11 (MSB).", 5 DB10 (in) "Data Bit 10.", 6 GND (power) "Ground. Ground reference for all on-chip circuitry.", 7 DB9 (in) "Data Bit 9.", 8 DB8 (in) "Data Bit 8.", 9 DB7 (in) "Data Bit 7.", 10 DB6 (in) "Data Bit 6.", 11 DB5 (in) "Data Bit 5.", 12 DB4 (in) "Data Bit 4.", 13 DB3 (in) "Data Bit 3.", 14 DB2 (in) "Data Bit 2.", 15 DB1 (in) "Data Bit 1.", 16 DB0 (in) "Data Bit 0 (LSB).", 17 ~{CSB} (in) "Chip Select Input for DAC B. Active low logic input. DAC B is selected when this input is active.", 18 ~{CSA} (in) "Chip Select Input for DAC A. Active low logic input. DAC A is selected when this input is active.", 19 ~{WR} (in) "Write Input. W\R\ is an active low logic input which is used in conjunction with C\S\A\ and C\S\B\ to write data to the DAC latches.", 20 VDD (power) "Positive Suppiy, +15V.", 21 VOUTA (out) "Analog Output Voltage from DAC A. This is the buffer amplifier output voltage. Three different Output voltage ranges can be chosen: 0 to +5 V , 0 to +10 V and +/-5 V. The amplifier is capable of developing +10 V across a 2 (See Datasheet)", 22 VSS (power) "Negative Supply,-15V.", 23 ROFSA (in) "Output Offset Resistor for DAC A. This input configures the output ranges for DAC A. It is connected to VOUTB for the +5 V range, to GND for the +10 V range and to REF IN for the +/-5 V range.", 24 REF IN (in) "Voltage Reference Input. The common reference voltage for both DACs is applied to this pin. It is internally buffered before being appiled to both DACs. The nominal reference voltage for correct operation of the AD7247 is 5 (See Datasheet)"